# EAGLE library part 535L250X2GT5 (library 535L250X2GT5)
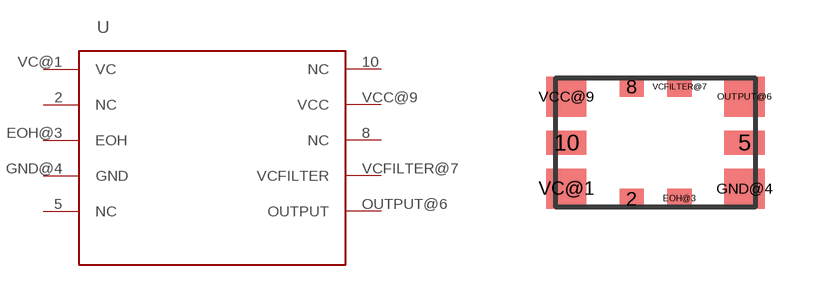
[diagram p0: symbol with the pads of 535L250X2GT5; footprint 535L250X2GT5]

Designator prefix -

## 535L250X2GT5  [535L250X2GT5]
2  NC
5  NC
8  NC
10  NC
EOH@3  EOH
GND@4  GND
OUTPUT@6  OUTPUT
VC@1  VC
VCC@9  VCC
VCFILTER@7  VCFILTER

## Footprint 535L250X2GT5 (pad centres in mm)
smd 0.6 x 0.5: 2 -0.6,-1.4; 8 -0.6,1.4; EOH@3 0.6,-1.4; VCFILTER@7 0.6,1.4
smd 1 x 0.6: 5 2.225,0; 10 -2.225,0
smd 1 x 1: GND@4 2.225,-1.15; OUTPUT@6 2.225,1.15; VC@1 -2.225,-1.15; VCC@9 -2.225,1.15